# Altium schematic symbol library MoldsvorPassives.SchLib: 3 symbols
Pins are listed as number, name and electrical type; pins without a type are passive.

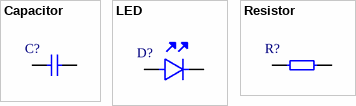
[diagram p0: symbols Capacitor to Resistor]

## Capacitor
designator C?  (value not drawn)
footprint 0603 Capacitor
footprint 0603 RF
pins: 1, 2

## LED
designator D?  (value not drawn)
footprint 0603 LED
pins: 1, 2

## Resistor
designator R?  (value not drawn)
footprint 0603 Resistor
footprint 0603 RF
pins: 1, 2